# Altium schematic symbol library VEML3328.SchLib: 1 symbol
Pins are listed as number, name and electrical type; pins without a type are passive.

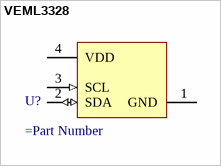
[diagram p0: symbol VEML3328]

## VEML3328
designator U?
=Description
pins: 1 GND (power), 2 SDA (io), 3 SCL (in), 4 VDD (power)